# Altium integrated library Atmel Security Smart Card.IntLib: 140 symbols (part 2 of 4)
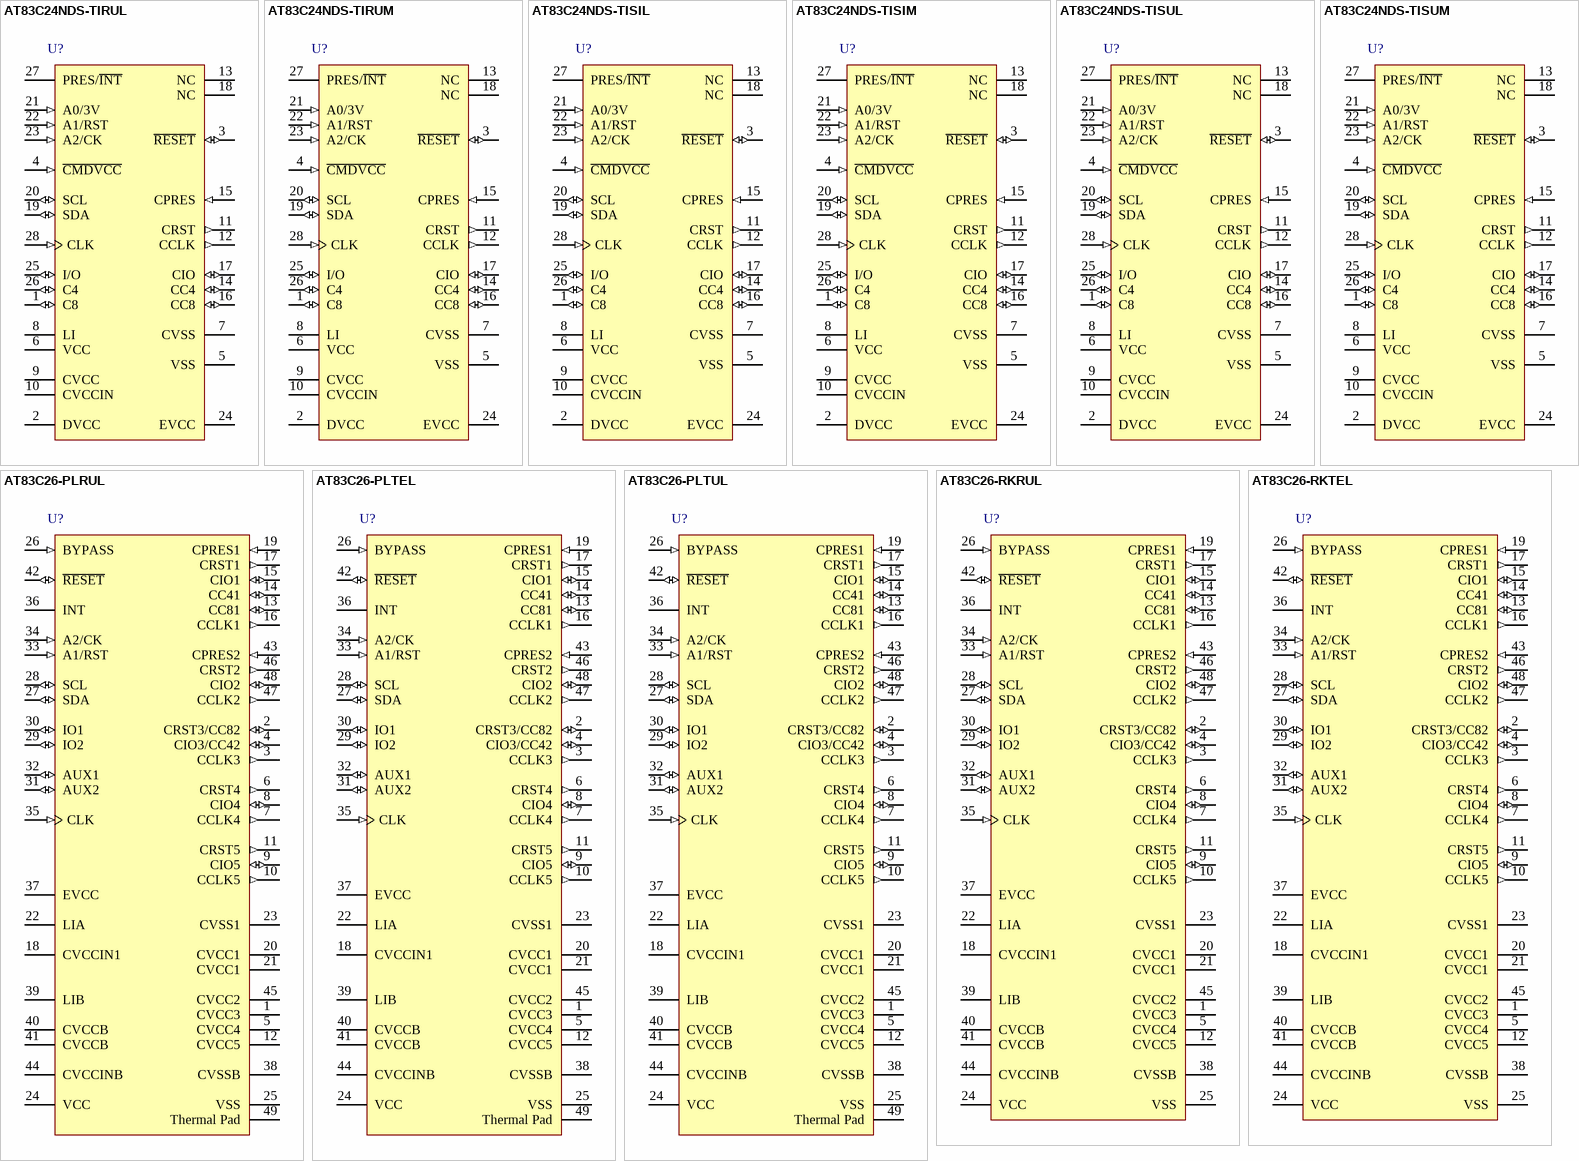
[diagram p9: symbols AT83C24NDS-TIRUL to AT83C26-RKTEL]

## AT83C26-RKRUL
designator U?
Multiple Smart Card Reader Interface With Power Management, Industrial, 48-Pin QFP Pkg, Tape and Reel, Pb-Free; DatasheetVersion: revD, Feb-2007; PackageVersion: rev1229B, Nov-2000; PackageReference: 48A; PackageDescription: 48-Pin Thin Quad Flat Pack 0.5 mm Pitch; ComponentLink1Description: Manufacturer URL; ComponentLink1URL: http://www.atmel.com/; ComponentLink2Description: Datasheet; ComponentLink2URL: http://www.atmel.com/dyn/resources/prod_documents/doc7511.pdf
footprint 48A_N (Thin QFP, 48-Leads, Body 7x7mm, Pitch 0.5mm, IPC Medium Density)
footprint 48A_L (Thin QFP, 48-Leads, Body 7x7mm, Pitch 0.5mm, IPC High Density)
footprint 48A_M (Thin QFP, 48-Leads, Body 7x7mm, Pitch 0.5mm, IPC Low Density)
pins: 1 CVCC3 (power), 2 CRST3/CC82 (io), 3 CCLK3 (out), 4 CIO3/CC42 (io), 5 CVCC4 (power), 6 CRST4 (out), 7 CCLK4 (out), 8 CIO4 (io), 9 CIO5 (io), 10 CCLK5 (out), 11 CRST5 (out), 12 CVCC5 (power), 13 CC81 (io), 14 CC41 (io), 15 CIO1 (io), 16 CCLK1 (out), 17 CRST1 (out), 18 CVCCIN1 (power), 19 CPRES1 (in), 20 CVCC1 (power), 21 CVCC1 (power), 22 LIA (power), 23 CVSS1 (power), 24 VCC (power), 25 VSS (power), 26 BYPASS (in), 27 SDA (io), 28 SCL (io), 29 IO2 (io), 30 IO1 (io), 31 AUX2 (io), 32 AUX1 (io), 33 A1/RST (in), 34 A2/CK (in), 35 CLK (in), 36 INT, 37 EVCC (power), 38 CVSSB (power), 39 LIB (power), 40 CVCCB (power), 41 CVCCB (power), 42 ~{RESET} (io), 43 CPRES2 (in), 44 CVCCINB (power), 45 CVCC2 (power), 46 CRST2 (out), 47 CCLK2 (out), 48 CIO2 (io)

## AT83C26-RKTEL
designator U?
Multiple Smart Card Reader Interface With Power Management, 25 degC, 48-Pin QFP Pkg, Tray; DatasheetVersion: revD, Feb-2007; PackageVersion: rev1229B, Nov-2000; PackageReference: 48A; PackageDescription: 48-Pin Thin Quad Flat Pack 0.5 mm Pitch; ComponentLink1Description: Manufacturer URL; ComponentLink1URL: http://www.atmel.com/; ComponentLink2Description: Datasheet; ComponentLink2URL: http://www.atmel.com/dyn/resources/prod_documents/doc7511.pdf
footprint 48A_N (Thin QFP, 48-Leads, Body 7x7mm, Pitch 0.5mm, IPC Medium Density)
footprint 48A_L (Thin QFP, 48-Leads, Body 7x7mm, Pitch 0.5mm, IPC High Density)
footprint 48A_M (Thin QFP, 48-Leads, Body 7x7mm, Pitch 0.5mm, IPC Low Density)
pins: 1 CVCC3 (power), 2 CRST3/CC82 (io), 3 CCLK3 (out), 4 CIO3/CC42 (io), 5 CVCC4 (power), 6 CRST4 (out), 7 CCLK4 (out), 8 CIO4 (io), 9 CIO5 (io), 10 CCLK5 (out), 11 CRST5 (out), 12 CVCC5 (power), 13 CC81 (io), 14 CC41 (io), 15 CIO1 (io), 16 CCLK1 (out), 17 CRST1 (out), 18 CVCCIN1 (power), 19 CPRES1 (in), 20 CVCC1 (power), 21 CVCC1 (power), 22 LIA (power), 23 CVSS1 (power), 24 VCC (power), 25 VSS (power), 26 BYPASS (in), 27 SDA (io), 28 SCL (io), 29 IO2 (io), 30 IO1 (io), 31 AUX2 (io), 32 AUX1 (io), 33 A1/RST (in), 34 A2/CK (in), 35 CLK (in), 36 INT, 37 EVCC (power), 38 CVSSB (power), 39 LIB (power), 40 CVCCB (power), 41 CVCCB (power), 42 ~{RESET} (io), 43 CPRES2 (in), 44 CVCCINB (power), 45 CVCC2 (power), 46 CRST2 (out), 47 CCLK2 (out), 48 CIO2 (io)

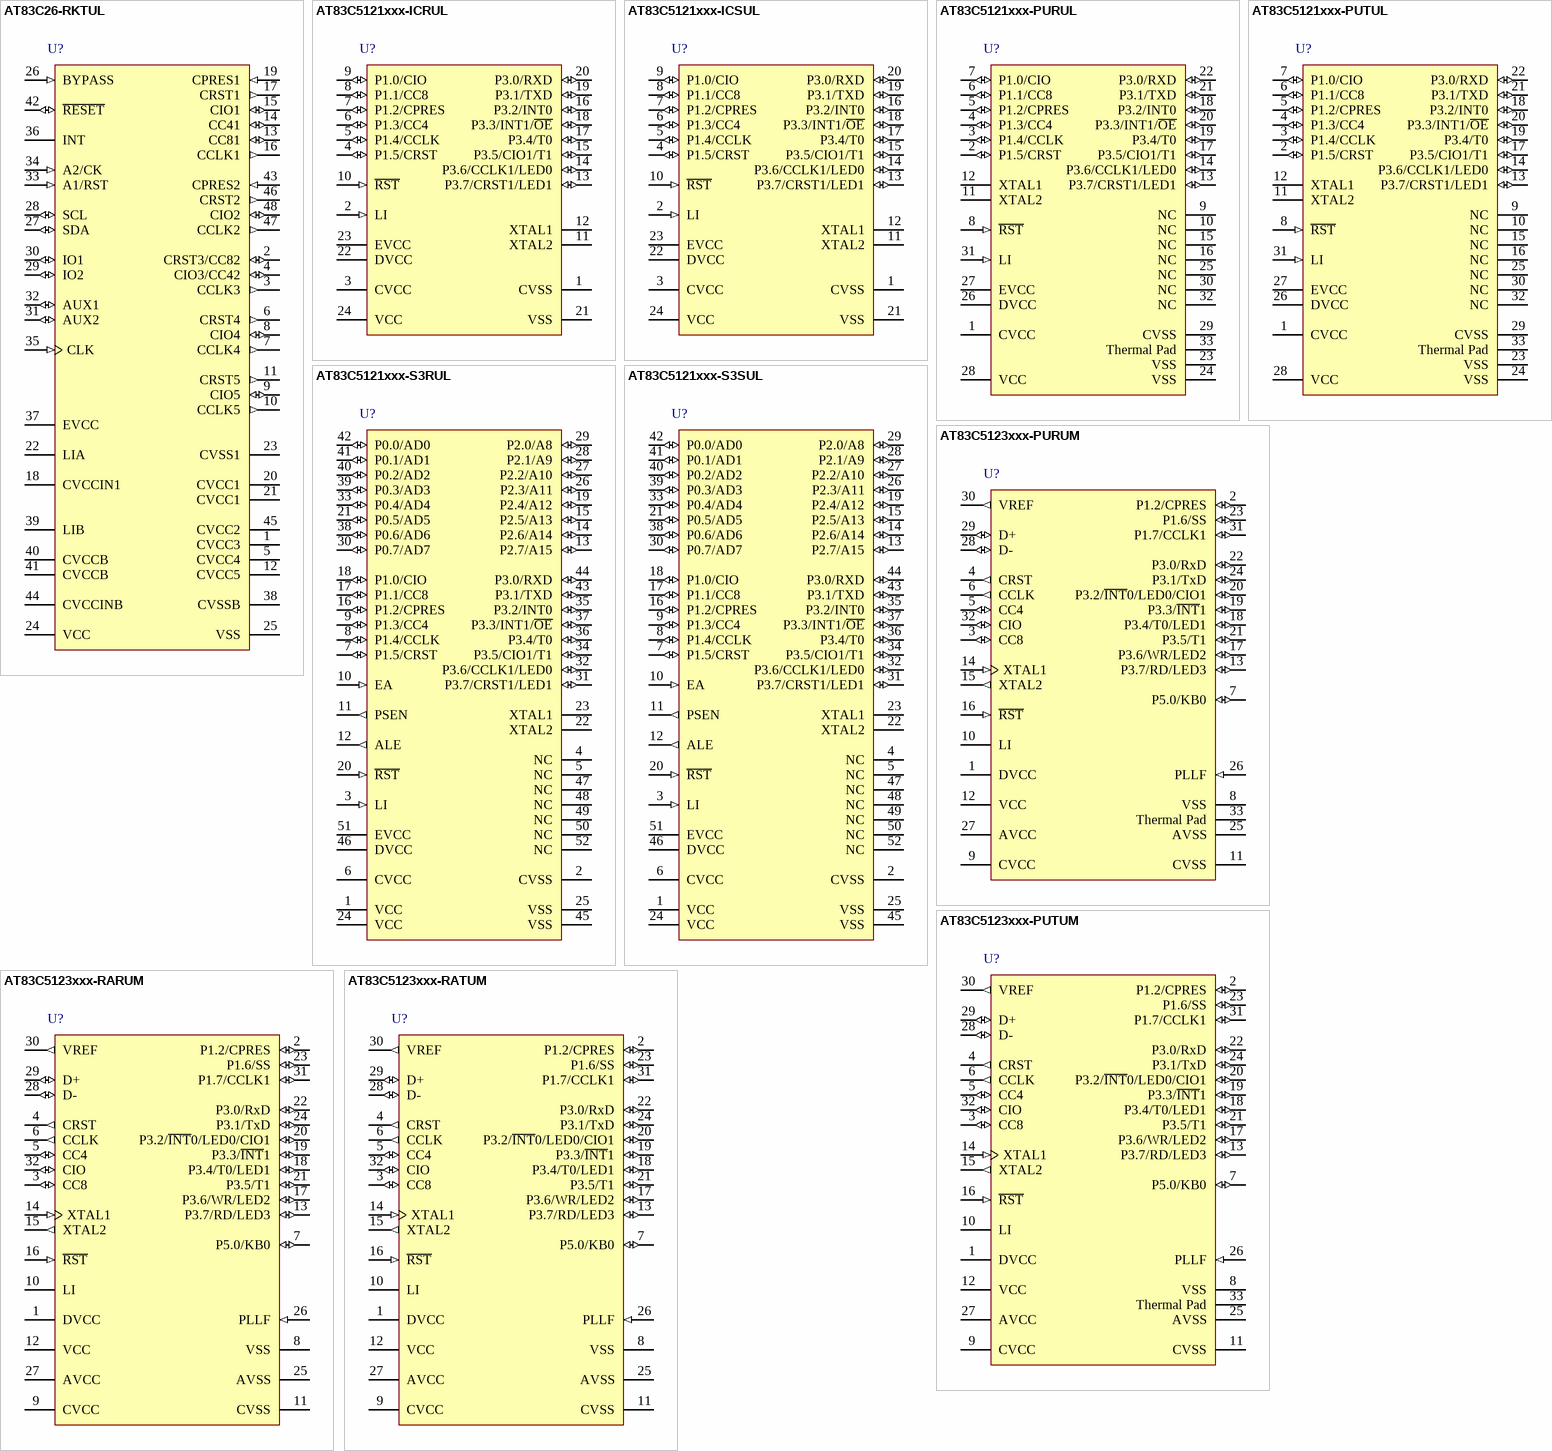
[diagram p3: symbols AT83C26-RKTUL to AT83C5123xxx-RATUM]

## AT83C26-RKTUL
designator U?
Multiple Smart Card Reader Interface With Power Management, Industrial, 48-Pin QFP Pkg, Tray, Pb-Free; DatasheetVersion: revD, Feb-2007; PackageVersion: rev1229B, Nov-2000; PackageReference: 48A; PackageDescription: 48-Pin Thin Quad Flat Pack 0.5 mm Pitch; ComponentLink1Description: Manufacturer URL; ComponentLink1URL: http://www.atmel.com/; ComponentLink2Description: Datasheet; ComponentLink2URL: http://www.atmel.com/dyn/resources/prod_documents/doc7511.pdf
footprint 48A_N (Thin QFP, 48-Leads, Body 7x7mm, Pitch 0.5mm, IPC Medium Density)
footprint 48A_L (Thin QFP, 48-Leads, Body 7x7mm, Pitch 0.5mm, IPC High Density)
footprint 48A_M (Thin QFP, 48-Leads, Body 7x7mm, Pitch 0.5mm, IPC Low Density)
pins: 1 CVCC3 (power), 2 CRST3/CC82 (io), 3 CCLK3 (out), 4 CIO3/CC42 (io), 5 CVCC4 (power), 6 CRST4 (out), 7 CCLK4 (out), 8 CIO4 (io), 9 CIO5 (io), 10 CCLK5 (out), 11 CRST5 (out), 12 CVCC5 (power), 13 CC81 (io), 14 CC41 (io), 15 CIO1 (io), 16 CCLK1 (out), 17 CRST1 (out), 18 CVCCIN1 (power), 19 CPRES1 (in), 20 CVCC1 (power), 21 CVCC1 (power), 22 LIA (power), 23 CVSS1 (power), 24 VCC (power), 25 VSS (power), 26 BYPASS (in), 27 SDA (io), 28 SCL (io), 29 IO2 (io), 30 IO1 (io), 31 AUX2 (io), 32 AUX1 (io), 33 A1/RST (in), 34 A2/CK (in), 35 CLK (in), 36 INT, 37 EVCC (power), 38 CVSSB (power), 39 LIB (power), 40 CVCCB (power), 41 CVCCB (power), 42 ~{RESET} (io), 43 CPRES2 (in), 44 CVCCINB (power), 45 CVCC2 (power), 46 CRST2 (out), 47 CCLK2 (out), 48 CIO2 (io)

## AT83C5121xxx-ICRUL
designator U?
8-bit Microcontroller with Multiprotocol Smart Card Interface, Industrial, 24-Pin SOIC Pkg, Tape and Reel, Pb-Free; DatasheetVersion: revG, July-2006; PackageVersion: 1/07/2006; PackageReference: SSOP24; PackageDescription: 24-Pin Shrink Small Outline Package, 8.2 x 5.3 mm Body, 0.65 mm Pitch; Code_JEDEC: MO-150-AG; ComponentLink1Description: Manufacturer URL; ComponentLink1URL: http://www.atmel.com/; ComponentLink2Description: Datasheet; ComponentLink2URL: http://www.atmel.com/dyn/resources/prod_documents/doc4164.pdf
footprint SSOP24_N (SOP, 24-Leads, Body 8.2x5.3mm, Pitch 0.65mm, IPC Medium Density)
footprint SSOP24_L (SOP, 24-Leads, Body 8.2x5.3mm, Pitch 0.65mm, IPC High Density)
footprint SSOP24_M (SOP, 24-Leads, Body 8.2x5.3mm, Pitch 0.65mm, IPC Low Density)
pins: 1 CVSS (power), 2 LI (in), 3 CVCC (power), 4 P1.5/CRST (io), 5 P1.4/CCLK (io), 6 P1.3/CC4 (io), 7 P1.2/CPRES (io), 8 P1.1/CC8 (io), 9 P1.0/CIO (io), 10 ~{RST} (in), 11 XTAL2, 12 XTAL1, 13 P3.7/CRST1/LED1 (io), 14 P3.6/CCLK1/LED0 (io), 15 P3.5/CIO1/T1 (io), 16 P3.2/INT0 (io), 17 P3.4/T0 (io), 18 P3.3/INT1/~{OE} (io), 19 P3.1/TXD (io), 20 P3.0/RXD (io), 21 VSS (power), 22 DVCC (power), 23 EVCC (power), 24 VCC (power)

## AT83C5121xxx-ICSUL
designator U?
8-bit Microcontroller with Multiprotocol Smart Card Interface, Industrial, 24-Pin SOIC Pkg, Stick, Pb-Free; DatasheetVersion: revG, July-2006; PackageVersion: 1/07/2006; PackageReference: SSOP24; PackageDescription: 24-Pin Shrink Small Outline Package, 8.2 x 5.3 mm Body, 0.65 mm Pitch; Code_JEDEC: MO-150-AG; ComponentLink1Description: Manufacturer URL; ComponentLink1URL: http://www.atmel.com/; ComponentLink2Description: Datasheet; ComponentLink2URL: http://www.atmel.com/dyn/resources/prod_documents/doc4164.pdf
footprint SSOP24_N (SOP, 24-Leads, Body 8.2x5.3mm, Pitch 0.65mm, IPC Medium Density)
footprint SSOP24_L (SOP, 24-Leads, Body 8.2x5.3mm, Pitch 0.65mm, IPC High Density)
footprint SSOP24_M (SOP, 24-Leads, Body 8.2x5.3mm, Pitch 0.65mm, IPC Low Density)
pins: 1 CVSS (power), 2 LI (in), 3 CVCC (power), 4 P1.5/CRST (io), 5 P1.4/CCLK (io), 6 P1.3/CC4 (io), 7 P1.2/CPRES (io), 8 P1.1/CC8 (io), 9 P1.0/CIO (io), 10 ~{RST} (in), 11 XTAL2, 12 XTAL1, 13 P3.7/CRST1/LED1 (io), 14 P3.6/CCLK1/LED0 (io), 15 P3.5/CIO1/T1 (io), 16 P3.2/INT0 (io), 17 P3.4/T0 (io), 18 P3.3/INT1/~{OE} (io), 19 P3.1/TXD (io), 20 P3.0/RXD (io), 21 VSS (power), 22 DVCC (power), 23 EVCC (power), 24 VCC (power)

## AT83C5121xxx-PURUL
designator U?
8-bit Microcontroller with Multiprotocol Smart Card Interface, Industrial, 32-Pin QFN Pkg, Tray, Pb-Free; DatasheetVersion: revG, July-2006; PackageVersion: 26/10/2011; PackageReference: QFN32; PackageDescription: 32-Pin Quad Flat No-Lead, 7 x 7 mm Body, 0.65 mm Pitch; Code_JEDEC: MO-220VKKC; Code_IPC: QFN65P700X700-32V; ComponentLink1Description: Manufacturer URL; ComponentLink1URL: http://www.atmel.com/; ComponentLink2Description: Datasheet; ComponentLink2URL: http://www.atmel.com/dyn/resources/prod_documents/doc4164.pdf
footprint QFN32_N (QFN, 32-Leads, Body 7x7mm, Pitch 0.65mm, Thermal Pad 5.3x5.3mm, IPC Medium Density)
footprint QFN32_L (QFN, 32-Leads, Body 7x7mm, Pitch 0.65mm, Thermal Pad 5.3x5.3mm, IPC High Density)
footprint QFN32_M (QFN, 32-Leads, Body 7x7mm, Pitch 0.65mm, Thermal Pad 5.3x5.3mm, IPC Low Density)
pins: 1 CVCC (power), 2 P1.5/CRST (io), 3 P1.4/CCLK (io), 4 P1.3/CC4 (io), 5 P1.2/CPRES (io), 6 P1.1/CC8 (io), 7 P1.0/CIO (io), 8 ~{RST} (in), 9 NC, 10 NC, 11 XTAL2, 12 XTAL1, 13 P3.7/CRST1/LED1 (io), 14 P3.6/CCLK1/LED0 (io), 15 NC, 16 NC, 17 P3.5/CIO1/T1 (io), 18 P3.2/INT0 (io), 19 P3.4/T0 (io), 20 P3.3/INT1/~{OE} (io), 21 P3.1/TXD (io), 22 P3.0/RXD (io), 23 VSS (power), 24 VSS (power), 25 NC, 26 DVCC (power), 27 EVCC (power), 28 VCC (power), 29 CVSS (power), 30 NC, 31 LI (in), 32 NC, 33 Thermal Pad (power)

## AT83C5121xxx-PUTUL
designator U?
8-bit Microcontroller with Multiprotocol Smart Card Interface, Industrial, 32-Pin QFN Pkg, Tray, Pb-Free; DatasheetVersion: revG, July-2006; PackageVersion: 26/10/2011; PackageReference: QFN32; PackageDescription: 32-Pin Quad Flat No-Lead, 7 x 7 mm Body, 0.65 mm Pitch; Code_JEDEC: MO-220VKKC; Code_IPC: QFN65P700X700-32V; ComponentLink1Description: Manufacturer URL; ComponentLink1URL: http://www.atmel.com/; ComponentLink2Description: Datasheet; ComponentLink2URL: http://www.atmel.com/dyn/resources/prod_documents/doc4164.pdf
footprint QFN32_N (QFN, 32-Leads, Body 7x7mm, Pitch 0.65mm, Thermal Pad 5.3x5.3mm, IPC Medium Density)
footprint QFN32_L (QFN, 32-Leads, Body 7x7mm, Pitch 0.65mm, Thermal Pad 5.3x5.3mm, IPC High Density)
footprint QFN32_M (QFN, 32-Leads, Body 7x7mm, Pitch 0.65mm, Thermal Pad 5.3x5.3mm, IPC Low Density)
pins: 1 CVCC (power), 2 P1.5/CRST (io), 3 P1.4/CCLK (io), 4 P1.3/CC4 (io), 5 P1.2/CPRES (io), 6 P1.1/CC8 (io), 7 P1.0/CIO (io), 8 ~{RST} (in), 9 NC, 10 NC, 11 XTAL2, 12 XTAL1, 13 P3.7/CRST1/LED1 (io), 14 P3.6/CCLK1/LED0 (io), 15 NC, 16 NC, 17 P3.5/CIO1/T1 (io), 18 P3.2/INT0 (io), 19 P3.4/T0 (io), 20 P3.3/INT1/~{OE} (io), 21 P3.1/TXD (io), 22 P3.0/RXD (io), 23 VSS (power), 24 VSS (power), 25 NC, 26 DVCC (power), 27 EVCC (power), 28 VCC (power), 29 CVSS (power), 30 NC, 31 LI (in), 32 NC, 33 Thermal Pad (power)

## AT83C5121xxx-S3RUL
designator U?
8-bit Microcontroller with Multiprotocol Smart Card Interface, Industrial, 52-Pin LCC Pkg, Tape and Reel, Pb-Free; DatasheetVersion: revG, July-2006; PackageVersion: 1/07/2006; PackageReference: PLCC52; PackageDescription: 52-Pin Leaded Chip Carrier ,19 x 19 mm Body, 1.27 mm Pitch; Code_IPC: PLCC-52; ComponentLink1Description: Manufacturer URL; ComponentLink1URL: http://www.atmel.com/; ComponentLink2Description: Datasheet; ComponentLink2URL: http://www.atmel.com/dyn/resources/prod_documents/doc4164.pdf
footprint PLCC52_N (Leaded Chip Carrier, 52-Leads, Body 19x19mm, Pitch 1.27mm, IPC Medium Density)
footprint PLCC52_L (Leaded Chip Carrier, 52-Leads, Body 19x19mm, Pitch 1.27mm, IPC High Density)
footprint PLCC52_M (Leaded Chip Carrier, 52-Leads, Body 19x19mm, Pitch 1.27mm, IPC Low Density)
pins: 1 VCC (power), 2 CVSS (power), 3 LI (in), 4 NC, 5 NC, 6 CVCC (power), 7 P1.5/CRST (io), 8 P1.4/CCLK (io), 9 P1.3/CC4 (io), 10 EA (in), 11 PSEN (out), 12 ALE (out), 13 P2.7/A15 (io), 14 P2.6/A14 (io), 15 P2.5/A13 (io), 16 P1.2/CPRES (io), 17 P1.1/CC8 (io), 18 P1.0/CIO (io), 19 P2.4/A12 (io), 20 ~{RST} (in), 21 P0.5/AD5 (io), 22 XTAL2, 23 XTAL1, 24 VCC (power), 25 VSS (power), 26 P2.3/A11 (io), 27 P2.2/A10 (io), 28 P2.1/A9 (io), 29 P2.0/A8 (io), 30 P0.7/AD7 (io), 31 P3.7/CRST1/LED1 (io), 32 P3.6/CCLK1/LED0 (io), 33 P0.4/AD4 (io), 34 P3.5/CIO1/T1 (io), 35 P3.2/INT0 (io), 36 P3.4/T0 (io), 37 P3.3/INT1/~{OE} (io), 38 P0.6/AD6 (io), 39 P0.3/AD3 (io), 40 P0.2/AD2 (io), 41 P0.1/AD1 (io), 42 P0.0/AD0 (io), 43 P3.1/TXD (io), 44 P3.0/RXD (io), 45 VSS (power), 46 DVCC (power), 47 NC, 48 NC, 49 NC, 50 NC, 51 EVCC (power), 52 NC

## AT83C5121xxx-S3SUL
designator U?
8-bit Microcontroller with Multiprotocol Smart Card Interface, Industrial, 52-Pin LCC Pkg, Stick, Pb-Free; DatasheetVersion: revG, July-2006; PackageVersion: 1/07/2006; PackageReference: PLCC52; PackageDescription: 52-Pin Leaded Chip Carrier ,19 x 19 mm Body, 1.27 mm Pitch; Code_IPC: PLCC-52; ComponentLink1Description: Manufacturer URL; ComponentLink1URL: http://www.atmel.com/; ComponentLink2Description: Datasheet; ComponentLink2URL: http://www.atmel.com/dyn/resources/prod_documents/doc4164.pdf
footprint PLCC52_N (Leaded Chip Carrier, 52-Leads, Body 19x19mm, Pitch 1.27mm, IPC Medium Density)
footprint PLCC52_L (Leaded Chip Carrier, 52-Leads, Body 19x19mm, Pitch 1.27mm, IPC High Density)
footprint PLCC52_M (Leaded Chip Carrier, 52-Leads, Body 19x19mm, Pitch 1.27mm, IPC Low Density)
pins: 1 VCC (power), 2 CVSS (power), 3 LI (in), 4 NC, 5 NC, 6 CVCC (power), 7 P1.5/CRST (io), 8 P1.4/CCLK (io), 9 P1.3/CC4 (io), 10 EA (in), 11 PSEN (out), 12 ALE (out), 13 P2.7/A15 (io), 14 P2.6/A14 (io), 15 P2.5/A13 (io), 16 P1.2/CPRES (io), 17 P1.1/CC8 (io), 18 P1.0/CIO (io), 19 P2.4/A12 (io), 20 ~{RST} (in), 21 P0.5/AD5 (io), 22 XTAL2, 23 XTAL1, 24 VCC (power), 25 VSS (power), 26 P2.3/A11 (io), 27 P2.2/A10 (io), 28 P2.1/A9 (io), 29 P2.0/A8 (io), 30 P0.7/AD7 (io), 31 P3.7/CRST1/LED1 (io), 32 P3.6/CCLK1/LED0 (io), 33 P0.4/AD4 (io), 34 P3.5/CIO1/T1 (io), 35 P3.2/INT0 (io), 36 P3.4/T0 (io), 37 P3.3/INT1/~{OE} (io), 38 P0.6/AD6 (io), 39 P0.3/AD3 (io), 40 P0.2/AD2 (io), 41 P0.1/AD1 (io), 42 P0.0/AD0 (io), 43 P3.1/TXD (io), 44 P3.0/RXD (io), 45 VSS (power), 46 DVCC (power), 47 NC, 48 NC, 49 NC, 50 NC, 51 EVCC (power), 52 NC

## AT83C5123xxx-PURUM
designator U?
C51 Microcontroller with USB and Smart Card Reader Interfaces, 30K ROM, Industrial, 32-Pin QFN Pkg, Tape and Reel; DatasheetVersion: revF, July-2008; PackageVersion: 26/10/2011; PackageReference: QFN32; PackageDescription: 32-Pin Quad Flat No-Lead, 7 x 7 mm Body, 0.65 mm Pitch; Code_JEDEC: MO-220VKKC; Code_IPC: QFN65P700X700-32V; ComponentLink1Description: Manufacturer URL; ComponentLink1URL: http://www.atmel.com/; ComponentLink2Description: Datasheet; ComponentLink2URL: http://www.atmel.com/dyn/resources/prod_documents/datasheet%20C5122.pdf
footprint QFN32_N (QFN, 32-Leads, Body 7x7mm, Pitch 0.65mm, Thermal Pad 5.3x5.3mm, IPC Medium Density)
footprint QFN32_L (QFN, 32-Leads, Body 7x7mm, Pitch 0.65mm, Thermal Pad 5.3x5.3mm, IPC High Density)
footprint QFN32_M (QFN, 32-Leads, Body 7x7mm, Pitch 0.65mm, Thermal Pad 5.3x5.3mm, IPC Low Density)
pins: 1 DVCC (power), 2 P1.2/CPRES (io), 3 CC8 (io), 4 CRST (out), 5 CC4 (io), 6 CCLK (out), 7 P5.0/KB0 (io), 8 VSS (power), 9 CVCC (power), 10 LI (power), 11 CVSS (power), 12 VCC (power), 13 P3.7/RD/LED3 (io), 14 XTAL1 (in), 15 XTAL2 (out), 16 ~{RST} (in), 17 P3.6/WR/LED2 (io), 18 P3.4/T0/LED1 (io), 19 P3.3/~{INT}1 (io), 20 P3.2/~{INT}0/LED0/CIO1 (io), 21 P3.5/T1 (io), 22 P3.0/RxD (io), 23 P1.6/SS (io), 24 P3.1/TxD (io), 25 AVSS (power), 26 PLLF (in), 27 AVCC (power), 28 D- (io), 29 D+ (io), 30 VREF (out), 31 P1.7/CCLK1 (io), 32 CIO (io), 33 Thermal Pad (power)

## AT83C5123xxx-PUTUM
designator U?
C51 Microcontroller with USB and Smart Card Reader Interfaces, 30K ROM, Industrial, 32-Pin QFN Pkg, Tray; DatasheetVersion: revF, July-2008; PackageVersion: 26/10/2011; PackageReference: QFN32; PackageDescription: 32-Pin Quad Flat No-Lead, 7 x 7 mm Body, 0.65 mm Pitch; Code_JEDEC: MO-220VKKC; Code_IPC: QFN65P700X700-32V; ComponentLink1Description: Manufacturer URL; ComponentLink1URL: http://www.atmel.com/; ComponentLink2Description: Datasheet; ComponentLink2URL: http://www.atmel.com/dyn/resources/prod_documents/datasheet%20C5122.pdf
footprint QFN32_N (QFN, 32-Leads, Body 7x7mm, Pitch 0.65mm, Thermal Pad 5.3x5.3mm, IPC Medium Density)
footprint QFN32_L (QFN, 32-Leads, Body 7x7mm, Pitch 0.65mm, Thermal Pad 5.3x5.3mm, IPC High Density)
footprint QFN32_M (QFN, 32-Leads, Body 7x7mm, Pitch 0.65mm, Thermal Pad 5.3x5.3mm, IPC Low Density)
pins: 1 DVCC (power), 2 P1.2/CPRES (io), 3 CC8 (io), 4 CRST (out), 5 CC4 (io), 6 CCLK (out), 7 P5.0/KB0 (io), 8 VSS (power), 9 CVCC (power), 10 LI (power), 11 CVSS (power), 12 VCC (power), 13 P3.7/RD/LED3 (io), 14 XTAL1 (in), 15 XTAL2 (out), 16 ~{RST} (in), 17 P3.6/WR/LED2 (io), 18 P3.4/T0/LED1 (io), 19 P3.3/~{INT}1 (io), 20 P3.2/~{INT}0/LED0/CIO1 (io), 21 P3.5/T1 (io), 22 P3.0/RxD (io), 23 P1.6/SS (io), 24 P3.1/TxD (io), 25 AVSS (power), 26 PLLF (in), 27 AVCC (power), 28 D- (io), 29 D+ (io), 30 VREF (out), 31 P1.7/CCLK1 (io), 32 CIO (io), 33 Thermal Pad (power)

## AT83C5123xxx-RARUM
designator U?
C51 Microcontroller with USB and Smart Card Reader Interfaces, 30K ROM, Industrial, 32-Pin QFP Pkg, Tape and Reel; DatasheetVersion: revF, July-2008; PackageVersion: 1/03/2007; PackageReference: LQFP32; PackageDescription: 32-Lead Thin Profile Quad Flatpack, 7 x 7 x 1.4 mm Body,  0.8 mm Pitch; ComponentLink1Description: Manufacturer URL; ComponentLink1URL: http://www.atmel.com/; ComponentLink2Description: Datasheet; ComponentLink2URL: http://www.atmel.com/dyn/resources/prod_documents/datasheet%20C5122.pdf
footprint LQFP32_N (Thin QFP, 32-Leads, Body 7x7mm, Pitch 0.8mm, IPC Medium Density)
footprint LQFP32_L (Thin QFP, 32-Leads, Body 7x7mm, Pitch 0.8mm, IPC High Density)
footprint LQFP32_M (Thin QFP, 32-Leads, Body 7x7mm, Pitch 0.8mm, IPC Low Density)
pins: 1 DVCC (power), 2 P1.2/CPRES (io), 3 CC8 (io), 4 CRST (out), 5 CC4 (io), 6 CCLK (out), 7 P5.0/KB0 (io), 8 VSS (power), 9 CVCC (power), 10 LI (power), 11 CVSS (power), 12 VCC (power), 13 P3.7/RD/LED3 (io), 14 XTAL1 (in), 15 XTAL2 (out), 16 ~{RST} (in), 17 P3.6/WR/LED2 (io), 18 P3.4/T0/LED1 (io), 19 P3.3/~{INT}1 (io), 20 P3.2/~{INT}0/LED0/CIO1 (io), 21 P3.5/T1 (io), 22 P3.0/RxD (io), 23 P1.6/SS (io), 24 P3.1/TxD (io), 25 AVSS (power), 26 PLLF (in), 27 AVCC (power), 28 D- (io), 29 D+ (io), 30 VREF (out), 31 P1.7/CCLK1 (io), 32 CIO (io)

## AT83C5123xxx-RATUM
designator U?
C51 Microcontroller with USB and Smart Card Reader Interfaces, 30K ROM, Industrial, 32-Pin QFP Pkg, Tray; DatasheetVersion: revF, July-2008; PackageVersion: 1/03/2007; PackageReference: LQFP32; PackageDescription: 32-Lead Thin Profile Quad Flatpack, 7 x 7 x 1.4 mm Body,  0.8 mm Pitch; ComponentLink1Description: Manufacturer URL; ComponentLink1URL: http://www.atmel.com/; ComponentLink2Description: Datasheet; ComponentLink2URL: http://www.atmel.com/dyn/resources/prod_documents/datasheet%20C5122.pdf
footprint LQFP32_N (Thin QFP, 32-Leads, Body 7x7mm, Pitch 0.8mm, IPC Medium Density)
footprint LQFP32_L (Thin QFP, 32-Leads, Body 7x7mm, Pitch 0.8mm, IPC High Density)
footprint LQFP32_M (Thin QFP, 32-Leads, Body 7x7mm, Pitch 0.8mm, IPC Low Density)
pins: 1 DVCC (power), 2 P1.2/CPRES (io), 3 CC8 (io), 4 CRST (out), 5 CC4 (io), 6 CCLK (out), 7 P5.0/KB0 (io), 8 VSS (power), 9 CVCC (power), 10 LI (power), 11 CVSS (power), 12 VCC (power), 13 P3.7/RD/LED3 (io), 14 XTAL1 (in), 15 XTAL2 (out), 16 ~{RST} (in), 17 P3.6/WR/LED2 (io), 18 P3.4/T0/LED1 (io), 19 P3.3/~{INT}1 (io), 20 P3.2/~{INT}0/LED0/CIO1 (io), 21 P3.5/T1 (io), 22 P3.0/RxD (io), 23 P1.6/SS (io), 24 P3.1/TxD (io), 25 AVSS (power), 26 PLLF (in), 27 AVCC (power), 28 D- (io), 29 D+ (io), 30 VREF (out), 31 P1.7/CCLK1 (io), 32 CIO (io)

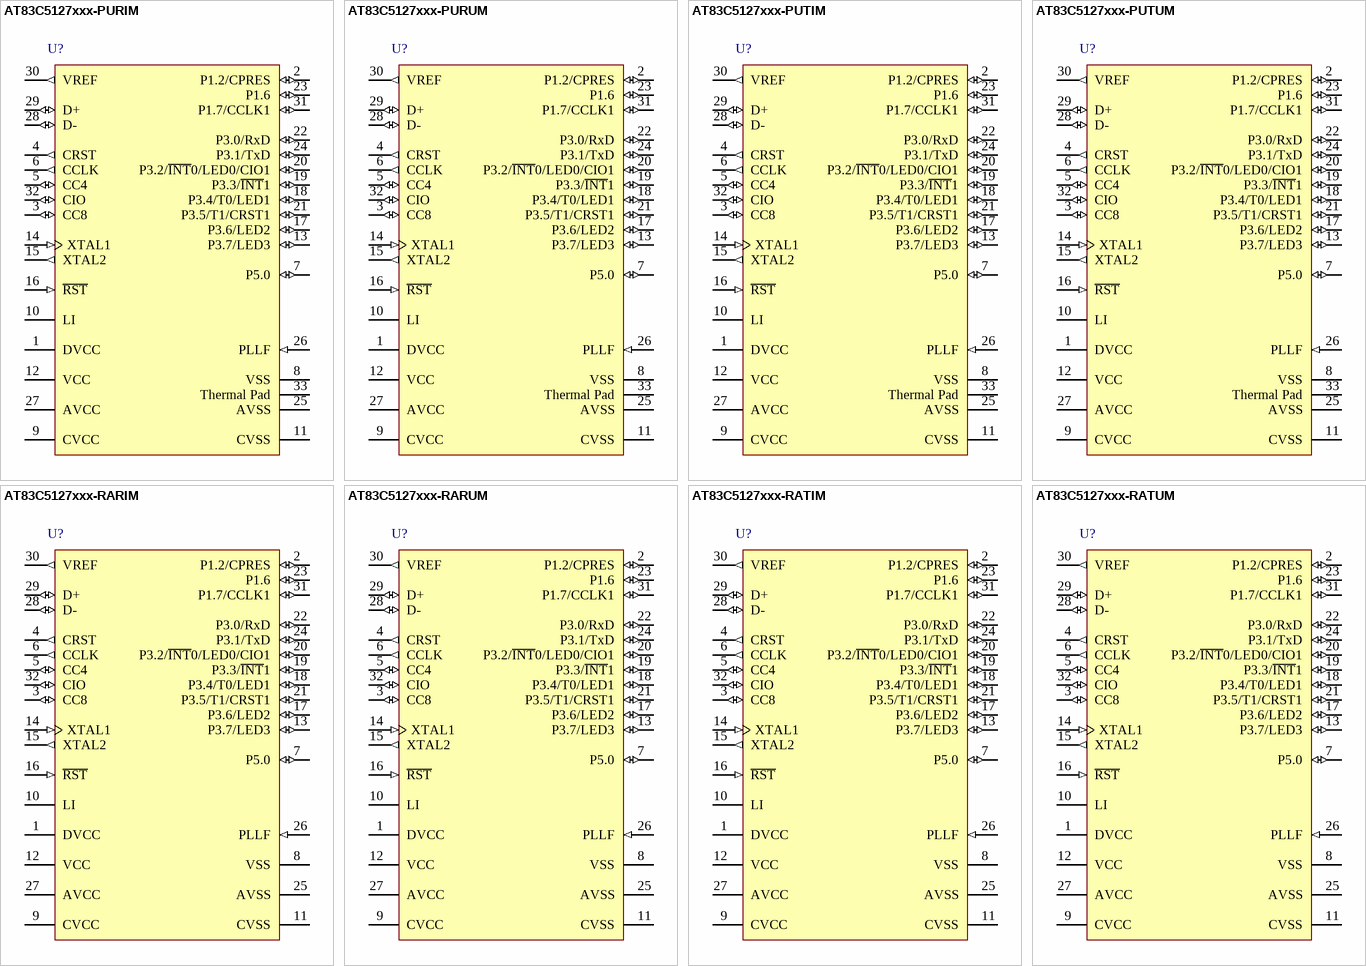
[diagram p4: symbols AT83C5127xxx-PURIM to AT83C5127xxx-RATUM]

## AT83C5127xxx-PURIM
designator U?
C51 Microcontroller with USB and Smart Card Reader Interfaces, Industrial, 32-Pin QFN Pkg, Tape and Reel; DatasheetVersion: revA, Apr-2005; PackageVersion: 26/10/2011; PackageReference: QFN32; PackageDescription: 32-Pin Quad Flat No-Lead, 7 x 7 mm Body, 0.65 mm Pitch; Code_JEDEC: MO-220VKKC; Code_IPC: QFN65P700X700-32V; ComponentLink1Description: Manufacturer URL; ComponentLink1URL: http://www.atmel.com/; ComponentLink2Description: Datasheet; ComponentLink2URL: http://www.atmel.com/dyn/resources/prod_documents/doc7519.pdf
footprint QFN32_N (QFN, 32-Leads, Body 7x7mm, Pitch 0.65mm, Thermal Pad 5.3x5.3mm, IPC Medium Density)
footprint QFN32_L (QFN, 32-Leads, Body 7x7mm, Pitch 0.65mm, Thermal Pad 5.3x5.3mm, IPC High Density)
footprint QFN32_M (QFN, 32-Leads, Body 7x7mm, Pitch 0.65mm, Thermal Pad 5.3x5.3mm, IPC Low Density)
pins: 1 DVCC (power), 2 P1.2/CPRES (io), 3 CC8 (io), 4 CRST (out), 5 CC4 (io), 6 CCLK (out), 7 P5.0 (io), 8 VSS (power), 9 CVCC (power), 10 LI (power), 11 CVSS (power), 12 VCC (power), 13 P3.7/LED3 (io), 14 XTAL1 (in), 15 XTAL2 (out), 16 ~{RST} (in), 17 P3.6/LED2 (io), 18 P3.4/T0/LED1 (io), 19 P3.3/~{INT}1 (io), 20 P3.2/~{INT}0/LED0/CIO1 (io), 21 P3.5/T1/CRST1 (io), 22 P3.0/RxD (io), 23 P1.6 (io), 24 P3.1/TxD (io), 25 AVSS (power), 26 PLLF (in), 27 AVCC (power), 28 D- (io), 29 D+ (io), 30 VREF (out), 31 P1.7/CCLK1 (io), 32 CIO (io), 33 Thermal Pad (power)

## AT83C5127xxx-PURUM
designator U?
C51 Microcontroller with USB and Smart Card Reader Interfaces, Industrial, 32-Pin QFN Pkg, Tape and Reel, Pb-Free; DatasheetVersion: revA, Apr-2005; PackageVersion: 26/10/2011; PackageReference: QFN32; PackageDescription: 32-Pin Quad Flat No-Lead, 7 x 7 mm Body, 0.65 mm Pitch; Code_JEDEC: MO-220VKKC; Code_IPC: QFN65P700X700-32V; ComponentLink1Description: Manufacturer URL; ComponentLink1URL: http://www.atmel.com/; ComponentLink2Description: Datasheet; ComponentLink2URL: http://www.atmel.com/dyn/resources/prod_documents/doc7519.pdf
footprint QFN32_N (QFN, 32-Leads, Body 7x7mm, Pitch 0.65mm, Thermal Pad 5.3x5.3mm, IPC Medium Density)
footprint QFN32_L (QFN, 32-Leads, Body 7x7mm, Pitch 0.65mm, Thermal Pad 5.3x5.3mm, IPC High Density)
footprint QFN32_M (QFN, 32-Leads, Body 7x7mm, Pitch 0.65mm, Thermal Pad 5.3x5.3mm, IPC Low Density)
pins: 1 DVCC (power), 2 P1.2/CPRES (io), 3 CC8 (io), 4 CRST (out), 5 CC4 (io), 6 CCLK (out), 7 P5.0 (io), 8 VSS (power), 9 CVCC (power), 10 LI (power), 11 CVSS (power), 12 VCC (power), 13 P3.7/LED3 (io), 14 XTAL1 (in), 15 XTAL2 (out), 16 ~{RST} (in), 17 P3.6/LED2 (io), 18 P3.4/T0/LED1 (io), 19 P3.3/~{INT}1 (io), 20 P3.2/~{INT}0/LED0/CIO1 (io), 21 P3.5/T1/CRST1 (io), 22 P3.0/RxD (io), 23 P1.6 (io), 24 P3.1/TxD (io), 25 AVSS (power), 26 PLLF (in), 27 AVCC (power), 28 D- (io), 29 D+ (io), 30 VREF (out), 31 P1.7/CCLK1 (io), 32 CIO (io), 33 Thermal Pad (power)

## AT83C5127xxx-PUTIM
designator U?
C51 Microcontroller with USB and Smart Card Reader Interfaces, Industrial, 32-Pin QFN Pkg, Tray; DatasheetVersion: revA, Apr-2005; PackageVersion: 26/10/2011; PackageReference: QFN32; PackageDescription: 32-Pin Quad Flat No-Lead, 7 x 7 mm Body, 0.65 mm Pitch; Code_JEDEC: MO-220VKKC; Code_IPC: QFN65P700X700-32V; ComponentLink1Description: Manufacturer URL; ComponentLink1URL: http://www.atmel.com/; ComponentLink2Description: Datasheet; ComponentLink2URL: http://www.atmel.com/dyn/resources/prod_documents/doc7519.pdf
footprint QFN32_N (QFN, 32-Leads, Body 7x7mm, Pitch 0.65mm, Thermal Pad 5.3x5.3mm, IPC Medium Density)
footprint QFN32_L (QFN, 32-Leads, Body 7x7mm, Pitch 0.65mm, Thermal Pad 5.3x5.3mm, IPC High Density)
footprint QFN32_M (QFN, 32-Leads, Body 7x7mm, Pitch 0.65mm, Thermal Pad 5.3x5.3mm, IPC Low Density)
pins: 1 DVCC (power), 2 P1.2/CPRES (io), 3 CC8 (io), 4 CRST (out), 5 CC4 (io), 6 CCLK (out), 7 P5.0 (io), 8 VSS (power), 9 CVCC (power), 10 LI (power), 11 CVSS (power), 12 VCC (power), 13 P3.7/LED3 (io), 14 XTAL1 (in), 15 XTAL2 (out), 16 ~{RST} (in), 17 P3.6/LED2 (io), 18 P3.4/T0/LED1 (io), 19 P3.3/~{INT}1 (io), 20 P3.2/~{INT}0/LED0/CIO1 (io), 21 P3.5/T1/CRST1 (io), 22 P3.0/RxD (io), 23 P1.6 (io), 24 P3.1/TxD (io), 25 AVSS (power), 26 PLLF (in), 27 AVCC (power), 28 D- (io), 29 D+ (io), 30 VREF (out), 31 P1.7/CCLK1 (io), 32 CIO (io), 33 Thermal Pad (power)

## AT83C5127xxx-PUTUM
designator U?
C51 Microcontroller with USB and Smart Card Reader Interfaces, Industrial, 32-Pin QFN Pkg, Tray, Pb-Free; DatasheetVersion: revA, Apr-2005; PackageVersion: 26/10/2011; PackageReference: QFN32; PackageDescription: 32-Pin Quad Flat No-Lead, 7 x 7 mm Body, 0.65 mm Pitch; Code_JEDEC: MO-220VKKC; Code_IPC: QFN65P700X700-32V; ComponentLink1Description: Manufacturer URL; ComponentLink1URL: http://www.atmel.com/; ComponentLink2Description: Datasheet; ComponentLink2URL: http://www.atmel.com/dyn/resources/prod_documents/doc7519.pdf
footprint QFN32_N (QFN, 32-Leads, Body 7x7mm, Pitch 0.65mm, Thermal Pad 5.3x5.3mm, IPC Medium Density)
footprint QFN32_L (QFN, 32-Leads, Body 7x7mm, Pitch 0.65mm, Thermal Pad 5.3x5.3mm, IPC High Density)
footprint QFN32_M (QFN, 32-Leads, Body 7x7mm, Pitch 0.65mm, Thermal Pad 5.3x5.3mm, IPC Low Density)
pins: 1 DVCC (power), 2 P1.2/CPRES (io), 3 CC8 (io), 4 CRST (out), 5 CC4 (io), 6 CCLK (out), 7 P5.0 (io), 8 VSS (power), 9 CVCC (power), 10 LI (power), 11 CVSS (power), 12 VCC (power), 13 P3.7/LED3 (io), 14 XTAL1 (in), 15 XTAL2 (out), 16 ~{RST} (in), 17 P3.6/LED2 (io), 18 P3.4/T0/LED1 (io), 19 P3.3/~{INT}1 (io), 20 P3.2/~{INT}0/LED0/CIO1 (io), 21 P3.5/T1/CRST1 (io), 22 P3.0/RxD (io), 23 P1.6 (io), 24 P3.1/TxD (io), 25 AVSS (power), 26 PLLF (in), 27 AVCC (power), 28 D- (io), 29 D+ (io), 30 VREF (out), 31 P1.7/CCLK1 (io), 32 CIO (io), 33 Thermal Pad (power)

## AT83C5127xxx-RARIM
designator U?
C51 Microcontroller with USB and Smart Card Reader Interfaces, Industrial, 32-Pin QFP Pkg, Tape and Reel; DatasheetVersion: revA, Apr-2005; PackageVersion: 1/03/2007; PackageReference: LQFP32; PackageDescription: 32-Lead Thin Profile Quad Flatpack, 7 x 7 x 1.4 mm Body,  0.8 mm Pitch; ComponentLink1Description: Manufacturer URL; ComponentLink1URL: http://www.atmel.com/; ComponentLink2Description: Datasheet; ComponentLink2URL: http://www.atmel.com/dyn/resources/prod_documents/doc7519.pdf
footprint LQFP32_N (Thin QFP, 32-Leads, Body 7x7mm, Pitch 0.8mm, IPC Medium Density)
footprint LQFP32_L (Thin QFP, 32-Leads, Body 7x7mm, Pitch 0.8mm, IPC High Density)
footprint LQFP32_M (Thin QFP, 32-Leads, Body 7x7mm, Pitch 0.8mm, IPC Low Density)
pins: 1 DVCC (power), 2 P1.2/CPRES (io), 3 CC8 (io), 4 CRST (out), 5 CC4 (io), 6 CCLK (out), 7 P5.0 (io), 8 VSS (power), 9 CVCC (power), 10 LI (power), 11 CVSS (power), 12 VCC (power), 13 P3.7/LED3 (io), 14 XTAL1 (in), 15 XTAL2 (out), 16 ~{RST} (in), 17 P3.6/LED2 (io), 18 P3.4/T0/LED1 (io), 19 P3.3/~{INT}1 (io), 20 P3.2/~{INT}0/LED0/CIO1 (io), 21 P3.5/T1/CRST1 (io), 22 P3.0/RxD (io), 23 P1.6 (io), 24 P3.1/TxD (io), 25 AVSS (power), 26 PLLF (in), 27 AVCC (power), 28 D- (io), 29 D+ (io), 30 VREF (out), 31 P1.7/CCLK1 (io), 32 CIO (io)

## AT83C5127xxx-RARUM
designator U?
C51 Microcontroller with USB and Smart Card Reader Interfaces, Industrial, 32-Pin QFP Pkg, Tape and Reel, Pb-Free; DatasheetVersion: revA, Apr-2005; PackageVersion: 1/03/2007; PackageReference: LQFP32; PackageDescription: 32-Lead Thin Profile Quad Flatpack, 7 x 7 x 1.4 mm Body,  0.8 mm Pitch; ComponentLink1Description: Manufacturer URL; ComponentLink1URL: http://www.atmel.com/; ComponentLink2Description: Datasheet; ComponentLink2URL: http://www.atmel.com/dyn/resources/prod_documents/doc7519.pdf
footprint LQFP32_N (Thin QFP, 32-Leads, Body 7x7mm, Pitch 0.8mm, IPC Medium Density)
footprint LQFP32_L (Thin QFP, 32-Leads, Body 7x7mm, Pitch 0.8mm, IPC High Density)
footprint LQFP32_M (Thin QFP, 32-Leads, Body 7x7mm, Pitch 0.8mm, IPC Low Density)
pins: 1 DVCC (power), 2 P1.2/CPRES (io), 3 CC8 (io), 4 CRST (out), 5 CC4 (io), 6 CCLK (out), 7 P5.0 (io), 8 VSS (power), 9 CVCC (power), 10 LI (power), 11 CVSS (power), 12 VCC (power), 13 P3.7/LED3 (io), 14 XTAL1 (in), 15 XTAL2 (out), 16 ~{RST} (in), 17 P3.6/LED2 (io), 18 P3.4/T0/LED1 (io), 19 P3.3/~{INT}1 (io), 20 P3.2/~{INT}0/LED0/CIO1 (io), 21 P3.5/T1/CRST1 (io), 22 P3.0/RxD (io), 23 P1.6 (io), 24 P3.1/TxD (io), 25 AVSS (power), 26 PLLF (in), 27 AVCC (power), 28 D- (io), 29 D+ (io), 30 VREF (out), 31 P1.7/CCLK1 (io), 32 CIO (io)

## AT83C5127xxx-RATIM
designator U?
C51 Microcontroller with USB and Smart Card Reader Interfaces, Industrial, 32-Pin QFP Pkg, Tray; DatasheetVersion: revA, Apr-2005; PackageVersion: 1/03/2007; PackageReference: LQFP32; PackageDescription: 32-Lead Thin Profile Quad Flatpack, 7 x 7 x 1.4 mm Body,  0.8 mm Pitch; ComponentLink1Description: Manufacturer URL; ComponentLink1URL: http://www.atmel.com/; ComponentLink2Description: Datasheet; ComponentLink2URL: http://www.atmel.com/dyn/resources/prod_documents/doc7519.pdf
footprint LQFP32_N (Thin QFP, 32-Leads, Body 7x7mm, Pitch 0.8mm, IPC Medium Density)
footprint LQFP32_L (Thin QFP, 32-Leads, Body 7x7mm, Pitch 0.8mm, IPC High Density)
footprint LQFP32_M (Thin QFP, 32-Leads, Body 7x7mm, Pitch 0.8mm, IPC Low Density)
pins: 1 DVCC (power), 2 P1.2/CPRES (io), 3 CC8 (io), 4 CRST (out), 5 CC4 (io), 6 CCLK (out), 7 P5.0 (io), 8 VSS (power), 9 CVCC (power), 10 LI (power), 11 CVSS (power), 12 VCC (power), 13 P3.7/LED3 (io), 14 XTAL1 (in), 15 XTAL2 (out), 16 ~{RST} (in), 17 P3.6/LED2 (io), 18 P3.4/T0/LED1 (io), 19 P3.3/~{INT}1 (io), 20 P3.2/~{INT}0/LED0/CIO1 (io), 21 P3.5/T1/CRST1 (io), 22 P3.0/RxD (io), 23 P1.6 (io), 24 P3.1/TxD (io), 25 AVSS (power), 26 PLLF (in), 27 AVCC (power), 28 D- (io), 29 D+ (io), 30 VREF (out), 31 P1.7/CCLK1 (io), 32 CIO (io)

## AT83C5127xxx-RATUM
designator U?
C51 Microcontroller with USB and Smart Card Reader Interfaces, Industrial, 32-Pin QFP Pkg, Tray, Pb-Free; DatasheetVersion: revA, Apr-2005; PackageVersion: 1/03/2007; PackageReference: LQFP32; PackageDescription: 32-Lead Thin Profile Quad Flatpack, 7 x 7 x 1.4 mm Body,  0.8 mm Pitch; ComponentLink1Description: Manufacturer URL; ComponentLink1URL: http://www.atmel.com/; ComponentLink2Description: Datasheet; ComponentLink2URL: http://www.atmel.com/dyn/resources/prod_documents/doc7519.pdf
footprint LQFP32_N (Thin QFP, 32-Leads, Body 7x7mm, Pitch 0.8mm, IPC Medium Density)
footprint LQFP32_L (Thin QFP, 32-Leads, Body 7x7mm, Pitch 0.8mm, IPC High Density)
footprint LQFP32_M (Thin QFP, 32-Leads, Body 7x7mm, Pitch 0.8mm, IPC Low Density)
pins: 1 DVCC (power), 2 P1.2/CPRES (io), 3 CC8 (io), 4 CRST (out), 5 CC4 (io), 6 CCLK (out), 7 P5.0 (io), 8 VSS (power), 9 CVCC (power), 10 LI (power), 11 CVSS (power), 12 VCC (power), 13 P3.7/LED3 (io), 14 XTAL1 (in), 15 XTAL2 (out), 16 ~{RST} (in), 17 P3.6/LED2 (io), 18 P3.4/T0/LED1 (io), 19 P3.3/~{INT}1 (io), 20 P3.2/~{INT}0/LED0/CIO1 (io), 21 P3.5/T1/CRST1 (io), 22 P3.0/RxD (io), 23 P1.6 (io), 24 P3.1/TxD (io), 25 AVSS (power), 26 PLLF (in), 27 AVCC (power), 28 D- (io), 29 D+ (io), 30 VREF (out), 31 P1.7/CCLK1 (io), 32 CIO (io)

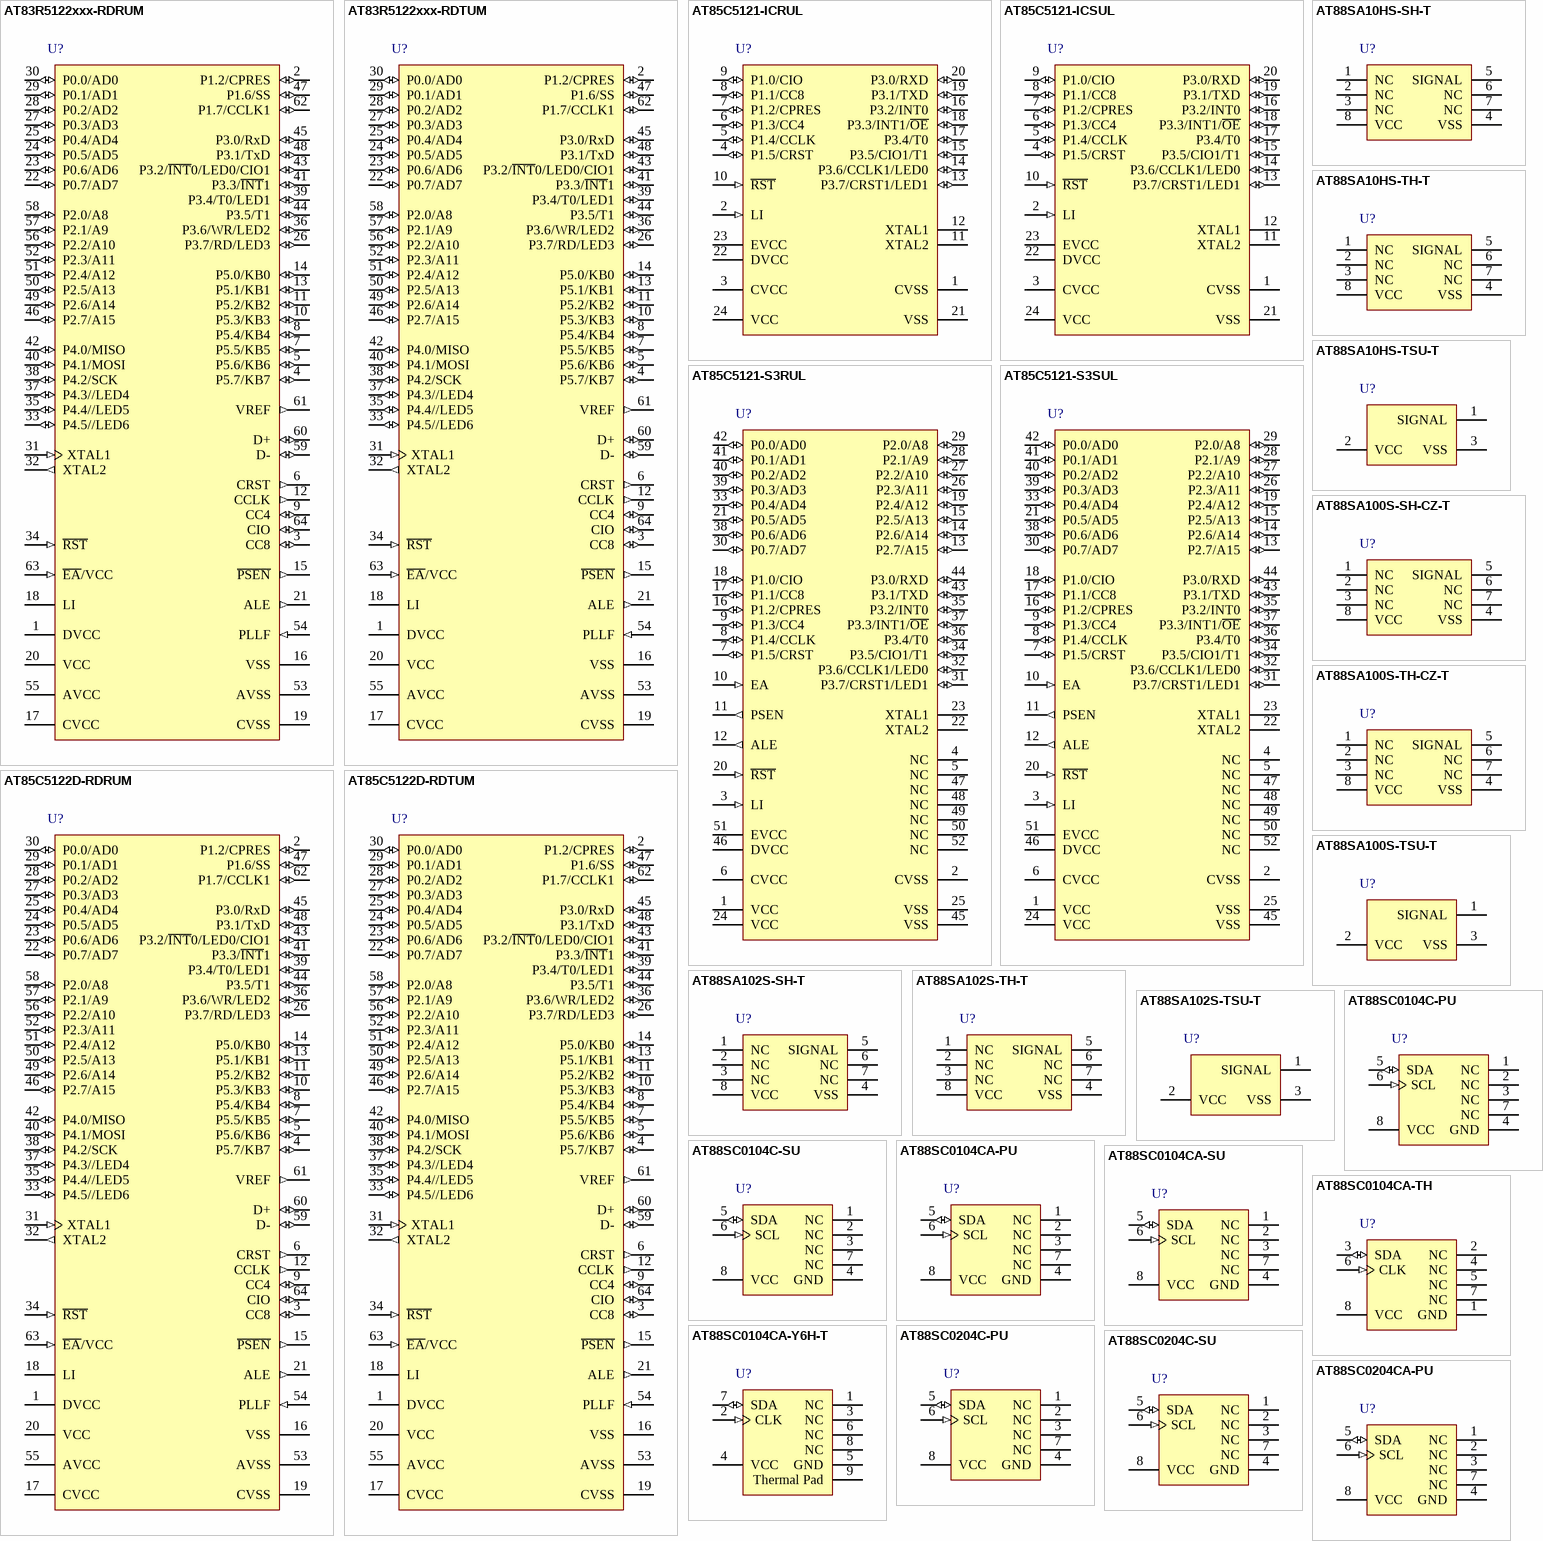
[diagram p5: symbols AT83R5122xxx-RDRUM to AT88SC0204CA-PU]

## AT83R5122xxx-RDRUM
designator U?
C51 Microcontroller with USB and Smart Card Reader Interfaces, 32K ROM, Industrial, 64-Pin QFP Pkg, Tape and Reel; DatasheetVersion: revF, July-2008; PackageVersion: 4/04/2006; PackageReference: LQFP64; PackageDescription: 64-Pin Thin Quad Flat Pack 0.5 mm Pitch; Code_JEDEC: MS-026-BCD; ComponentLink1Description: Manufacturer URL; ComponentLink1URL: http://www.atmel.com/; ComponentLink2Description: Datasheet; ComponentLink2URL: http://www.atmel.com/dyn/resources/prod_documents/datasheet%20C5122.pdf
footprint LQFP64_N (Thin QFP, 64-Leads, Body 10x10mm, Pitch 0.5mm, IPC Medium Density)
footprint LQFP64_L (Thin QFP, 64-Leads, Body 10x10mm, Pitch 0.5mm, IPC High Density)
footprint LQFP64_M (Thin QFP, 64-Leads, Body 10x10mm, Pitch 0.5mm, IPC Low Density)
pins: 1 DVCC (power), 2 P1.2/CPRES (io), 3 CC8 (io), 4 P5.7/KB7 (io), 5 P5.6/KB6 (io), 6 CRST (out), 7 P5.5/KB5 (io), 8 P5.4/KB4 (io), 9 CC4 (io), 10 P5.3/KB3 (io), 11 P5.2/KB2 (io), 12 CCLK (out), 13 P5.1/KB1 (io), 14 P5.0/KB0 (io), 15 ~{PSEN} (out), 16 VSS (power), 17 CVCC (power), 18 LI (power), 19 CVSS (power), 20 VCC (power), 21 ALE (out), 22 P0.7/AD7 (io), 23 P0.6/AD6 (io), 24 P0.5/AD5 (io), 25 P0.4/AD4 (io), 26 P3.7/RD/LED3 (io), 27 P0.3/AD3 (io), 28 P0.2/AD2 (io), 29 P0.1/AD1 (io), 30 P0.0/AD0 (io), 31 XTAL1 (in), 32 XTAL2 (out), 33 P4.5//LED6 (io), 34 ~{RST} (in), 35 P4.4//LED5 (io), 36 P3.6/WR/LED2 (io), 37 P4.3//LED4 (io), 38 P4.2/SCK (io), 39 P3.4/T0/LED1 (io), 40 P4.1/MOSI (io), 41 P3.3/~{INT}1 (io), 42 P4.0/MISO (io), 43 P3.2/~{INT}0/LED0/CIO1 (io), 44 P3.5/T1 (io), 45 P3.0/RxD (io), 46 P2.7/A15 (io), 47 P1.6/SS (io), 48 P3.1/TxD (io), 49 P2.6/A14 (io), 50 P2.5/A13 (io), 51 P2.4/A12 (io), 52 P2.3/A11 (io), 53 AVSS (power), 54 PLLF (in), 55 AVCC (power), 56 P2.2/A10 (io), 57 P2.1/A9 (io), 58 P2.0/A8 (io), 59 D- (io), 60 D+ (io), 61 VREF (out), 62 P1.7/CCLK1 (io), 63 ~{EA}/VCC (in), 64 CIO (io)

## AT83R5122xxx-RDTUM
designator U?
C51 Microcontroller with USB and Smart Card Reader Interfaces, 32K ROM, Industrial, 64-Pin QFP Pkg, Tray; DatasheetVersion: revF, July-2008; PackageVersion: 4/04/2006; PackageReference: LQFP64; PackageDescription: 64-Pin Thin Quad Flat Pack 0.5 mm Pitch; Code_JEDEC: MS-026-BCD; ComponentLink1Description: Manufacturer URL; ComponentLink1URL: http://www.atmel.com/; ComponentLink2Description: Datasheet; ComponentLink2URL: http://www.atmel.com/dyn/resources/prod_documents/datasheet%20C5122.pdf
footprint LQFP64_N (Thin QFP, 64-Leads, Body 10x10mm, Pitch 0.5mm, IPC Medium Density)
footprint LQFP64_L (Thin QFP, 64-Leads, Body 10x10mm, Pitch 0.5mm, IPC High Density)
footprint LQFP64_M (Thin QFP, 64-Leads, Body 10x10mm, Pitch 0.5mm, IPC Low Density)
pins: 1 DVCC (power), 2 P1.2/CPRES (io), 3 CC8 (io), 4 P5.7/KB7 (io), 5 P5.6/KB6 (io), 6 CRST (out), 7 P5.5/KB5 (io), 8 P5.4/KB4 (io), 9 CC4 (io), 10 P5.3/KB3 (io), 11 P5.2/KB2 (io), 12 CCLK (out), 13 P5.1/KB1 (io), 14 P5.0/KB0 (io), 15 ~{PSEN} (out), 16 VSS (power), 17 CVCC (power), 18 LI (power), 19 CVSS (power), 20 VCC (power), 21 ALE (out), 22 P0.7/AD7 (io), 23 P0.6/AD6 (io), 24 P0.5/AD5 (io), 25 P0.4/AD4 (io), 26 P3.7/RD/LED3 (io), 27 P0.3/AD3 (io), 28 P0.2/AD2 (io), 29 P0.1/AD1 (io), 30 P0.0/AD0 (io), 31 XTAL1 (in), 32 XTAL2 (out), 33 P4.5//LED6 (io), 34 ~{RST} (in), 35 P4.4//LED5 (io), 36 P3.6/WR/LED2 (io), 37 P4.3//LED4 (io), 38 P4.2/SCK (io), 39 P3.4/T0/LED1 (io), 40 P4.1/MOSI (io), 41 P3.3/~{INT}1 (io), 42 P4.0/MISO (io), 43 P3.2/~{INT}0/LED0/CIO1 (io), 44 P3.5/T1 (io), 45 P3.0/RxD (io), 46 P2.7/A15 (io), 47 P1.6/SS (io), 48 P3.1/TxD (io), 49 P2.6/A14 (io), 50 P2.5/A13 (io), 51 P2.4/A12 (io), 52 P2.3/A11 (io), 53 AVSS (power), 54 PLLF (in), 55 AVCC (power), 56 P2.2/A10 (io), 57 P2.1/A9 (io), 58 P2.0/A8 (io), 59 D- (io), 60 D+ (io), 61 VREF (out), 62 P1.7/CCLK1 (io), 63 ~{EA}/VCC (in), 64 CIO (io)

## AT85C5121-ICRUL
designator U?
8-bit Microcontroller with Multiprotocol Smart Card Interface, Industrial, 24-Pin SOIC Pkg, Tape and Reel, Pb-Free; DatasheetVersion: revG, July-2006; PackageVersion: 1/07/2006; PackageReference: SSOP24; PackageDescription: 24-Pin Shrink Small Outline Package, 8.2 x 5.3 mm Body, 0.65 mm Pitch; Code_JEDEC: MO-150-AG; ComponentLink1Description: Manufacturer URL; ComponentLink1URL: http://www.atmel.com/; ComponentLink2Description: Datasheet; ComponentLink2URL: http://www.atmel.com/dyn/resources/prod_documents/doc4164.pdf
footprint SSOP24_N (SOP, 24-Leads, Body 8.2x5.3mm, Pitch 0.65mm, IPC Medium Density)
footprint SSOP24_L (SOP, 24-Leads, Body 8.2x5.3mm, Pitch 0.65mm, IPC High Density)
footprint SSOP24_M (SOP, 24-Leads, Body 8.2x5.3mm, Pitch 0.65mm, IPC Low Density)
pins: 1 CVSS (power), 2 LI (in), 3 CVCC (power), 4 P1.5/CRST (io), 5 P1.4/CCLK (io), 6 P1.3/CC4 (io), 7 P1.2/CPRES (io), 8 P1.1/CC8 (io), 9 P1.0/CIO (io), 10 ~{RST} (in), 11 XTAL2, 12 XTAL1, 13 P3.7/CRST1/LED1 (io), 14 P3.6/CCLK1/LED0 (io), 15 P3.5/CIO1/T1 (io), 16 P3.2/INT0 (io), 17 P3.4/T0 (io), 18 P3.3/INT1/~{OE} (io), 19 P3.1/TXD (io), 20 P3.0/RXD (io), 21 VSS (power), 22 DVCC (power), 23 EVCC (power), 24 VCC (power)

## AT85C5121-ICSUL
designator U?
8-bit Microcontroller with Multiprotocol Smart Card Interface, Industrial, 24-Pin SOIC Pkg, Stick, Pb-Free; DatasheetVersion: revG, July-2006; PackageVersion: 1/07/2006; PackageReference: SSOP24; PackageDescription: 24-Pin Shrink Small Outline Package, 8.2 x 5.3 mm Body, 0.65 mm Pitch; Code_JEDEC: MO-150-AG; ComponentLink1Description: Manufacturer URL; ComponentLink1URL: http://www.atmel.com/; ComponentLink2Description: Datasheet; ComponentLink2URL: http://www.atmel.com/dyn/resources/prod_documents/doc4164.pdf
footprint SSOP24_N (SOP, 24-Leads, Body 8.2x5.3mm, Pitch 0.65mm, IPC Medium Density)
footprint SSOP24_L (SOP, 24-Leads, Body 8.2x5.3mm, Pitch 0.65mm, IPC High Density)
footprint SSOP24_M (SOP, 24-Leads, Body 8.2x5.3mm, Pitch 0.65mm, IPC Low Density)
pins: 1 CVSS (power), 2 LI (in), 3 CVCC (power), 4 P1.5/CRST (io), 5 P1.4/CCLK (io), 6 P1.3/CC4 (io), 7 P1.2/CPRES (io), 8 P1.1/CC8 (io), 9 P1.0/CIO (io), 10 ~{RST} (in), 11 XTAL2, 12 XTAL1, 13 P3.7/CRST1/LED1 (io), 14 P3.6/CCLK1/LED0 (io), 15 P3.5/CIO1/T1 (io), 16 P3.2/INT0 (io), 17 P3.4/T0 (io), 18 P3.3/INT1/~{OE} (io), 19 P3.1/TXD (io), 20 P3.0/RXD (io), 21 VSS (power), 22 DVCC (power), 23 EVCC (power), 24 VCC (power)

## AT85C5121-S3RUL
designator U?
8-bit Microcontroller with Multiprotocol Smart Card Interface, Industrial, 52-Pin LCC Pkg, Tape and Reel, Pb-Free; DatasheetVersion: revG, July-2006; PackageVersion: 1/07/2006; PackageReference: PLCC52; PackageDescription: 52-Pin Leaded Chip Carrier ,19 x 19 mm Body, 1.27 mm Pitch; Code_IPC: PLCC-52; ComponentLink1Description: Manufacturer URL; ComponentLink1URL: http://www.atmel.com/; ComponentLink2Description: Datasheet; ComponentLink2URL: http://www.atmel.com/dyn/resources/prod_documents/doc4164.pdf
footprint PLCC52_N (Leaded Chip Carrier, 52-Leads, Body 19x19mm, Pitch 1.27mm, IPC Medium Density)
footprint PLCC52_L (Leaded Chip Carrier, 52-Leads, Body 19x19mm, Pitch 1.27mm, IPC High Density)
footprint PLCC52_M (Leaded Chip Carrier, 52-Leads, Body 19x19mm, Pitch 1.27mm, IPC Low Density)
pins: 1 VCC (power), 2 CVSS (power), 3 LI (in), 4 NC, 5 NC, 6 CVCC (power), 7 P1.5/CRST (io), 8 P1.4/CCLK (io), 9 P1.3/CC4 (io), 10 EA (in), 11 PSEN (out), 12 ALE (out), 13 P2.7/A15 (io), 14 P2.6/A14 (io), 15 P2.5/A13 (io), 16 P1.2/CPRES (io), 17 P1.1/CC8 (io), 18 P1.0/CIO (io), 19 P2.4/A12 (io), 20 ~{RST} (in), 21 P0.5/AD5 (io), 22 XTAL2, 23 XTAL1, 24 VCC (power), 25 VSS (power), 26 P2.3/A11 (io), 27 P2.2/A10 (io), 28 P2.1/A9 (io), 29 P2.0/A8 (io), 30 P0.7/AD7 (io), 31 P3.7/CRST1/LED1 (io), 32 P3.6/CCLK1/LED0 (io), 33 P0.4/AD4 (io), 34 P3.5/CIO1/T1 (io), 35 P3.2/INT0 (io), 36 P3.4/T0 (io), 37 P3.3/INT1/~{OE} (io), 38 P0.6/AD6 (io), 39 P0.3/AD3 (io), 40 P0.2/AD2 (io), 41 P0.1/AD1 (io), 42 P0.0/AD0 (io), 43 P3.1/TXD (io), 44 P3.0/RXD (io), 45 VSS (power), 46 DVCC (power), 47 NC, 48 NC, 49 NC, 50 NC, 51 EVCC (power), 52 NC

## AT85C5121-S3SUL
designator U?
8-bit Microcontroller with Multiprotocol Smart Card Interface, Industrial, 52-Pin LCC Pkg, Stick, Pb-Free; DatasheetVersion: revG, July-2006; PackageVersion: 1/07/2006; PackageReference: PLCC52; PackageDescription: 52-Pin Leaded Chip Carrier ,19 x 19 mm Body, 1.27 mm Pitch; Code_IPC: PLCC-52; ComponentLink1Description: Manufacturer URL; ComponentLink1URL: http://www.atmel.com/; ComponentLink2Description: Datasheet; ComponentLink2URL: http://www.atmel.com/dyn/resources/prod_documents/doc4164.pdf
footprint PLCC52_N (Leaded Chip Carrier, 52-Leads, Body 19x19mm, Pitch 1.27mm, IPC Medium Density)
footprint PLCC52_L (Leaded Chip Carrier, 52-Leads, Body 19x19mm, Pitch 1.27mm, IPC High Density)
footprint PLCC52_M (Leaded Chip Carrier, 52-Leads, Body 19x19mm, Pitch 1.27mm, IPC Low Density)
pins: 1 VCC (power), 2 CVSS (power), 3 LI (in), 4 NC, 5 NC, 6 CVCC (power), 7 P1.5/CRST (io), 8 P1.4/CCLK (io), 9 P1.3/CC4 (io), 10 EA (in), 11 PSEN (out), 12 ALE (out), 13 P2.7/A15 (io), 14 P2.6/A14 (io), 15 P2.5/A13 (io), 16 P1.2/CPRES (io), 17 P1.1/CC8 (io), 18 P1.0/CIO (io), 19 P2.4/A12 (io), 20 ~{RST} (in), 21 P0.5/AD5 (io), 22 XTAL2, 23 XTAL1, 24 VCC (power), 25 VSS (power), 26 P2.3/A11 (io), 27 P2.2/A10 (io), 28 P2.1/A9 (io), 29 P2.0/A8 (io), 30 P0.7/AD7 (io), 31 P3.7/CRST1/LED1 (io), 32 P3.6/CCLK1/LED0 (io), 33 P0.4/AD4 (io), 34 P3.5/CIO1/T1 (io), 35 P3.2/INT0 (io), 36 P3.4/T0 (io), 37 P3.3/INT1/~{OE} (io), 38 P0.6/AD6 (io), 39 P0.3/AD3 (io), 40 P0.2/AD2 (io), 41 P0.1/AD1 (io), 42 P0.0/AD0 (io), 43 P3.1/TXD (io), 44 P3.0/RXD (io), 45 VSS (power), 46 DVCC (power), 47 NC, 48 NC, 49 NC, 50 NC, 51 EVCC (power), 52 NC

## AT85C5122D-RDRUM
designator U?
C51 Microcontroller with USB and Smart Card Reader Interfaces, 32K CRAM, Industrial, 64-Pin QFP Pkg, Tape and Reel; DatasheetVersion: revF, July-2008; PackageVersion: 4/04/2006; PackageReference: LQFP64; PackageDescription: 64-Pin Thin Quad Flat Pack 0.5 mm Pitch; Code_JEDEC: MS-026-BCD; ComponentLink1Description: Manufacturer URL; ComponentLink1URL: http://www.atmel.com/; ComponentLink2Description: Datasheet; ComponentLink2URL: http://www.atmel.com/dyn/resources/prod_documents/datasheet%20C5122.pdf
footprint LQFP64_N (Thin QFP, 64-Leads, Body 10x10mm, Pitch 0.5mm, IPC Medium Density)
footprint LQFP64_L (Thin QFP, 64-Leads, Body 10x10mm, Pitch 0.5mm, IPC High Density)
footprint LQFP64_M (Thin QFP, 64-Leads, Body 10x10mm, Pitch 0.5mm, IPC Low Density)
pins: 1 DVCC (power), 2 P1.2/CPRES (io), 3 CC8 (io), 4 P5.7/KB7 (io), 5 P5.6/KB6 (io), 6 CRST (out), 7 P5.5/KB5 (io), 8 P5.4/KB4 (io), 9 CC4 (io), 10 P5.3/KB3 (io), 11 P5.2/KB2 (io), 12 CCLK (out), 13 P5.1/KB1 (io), 14 P5.0/KB0 (io), 15 ~{PSEN} (out), 16 VSS (power), 17 CVCC (power), 18 LI (power), 19 CVSS (power), 20 VCC (power), 21 ALE (out), 22 P0.7/AD7 (io), 23 P0.6/AD6 (io), 24 P0.5/AD5 (io), 25 P0.4/AD4 (io), 26 P3.7/RD/LED3 (io), 27 P0.3/AD3 (io), 28 P0.2/AD2 (io), 29 P0.1/AD1 (io), 30 P0.0/AD0 (io), 31 XTAL1 (in), 32 XTAL2 (out), 33 P4.5//LED6 (io), 34 ~{RST} (in), 35 P4.4//LED5 (io), 36 P3.6/WR/LED2 (io), 37 P4.3//LED4 (io), 38 P4.2/SCK (io), 39 P3.4/T0/LED1 (io), 40 P4.1/MOSI (io), 41 P3.3/~{INT}1 (io), 42 P4.0/MISO (io), 43 P3.2/~{INT}0/LED0/CIO1 (io), 44 P3.5/T1 (io), 45 P3.0/RxD (io), 46 P2.7/A15 (io), 47 P1.6/SS (io), 48 P3.1/TxD (io), 49 P2.6/A14 (io), 50 P2.5/A13 (io), 51 P2.4/A12 (io), 52 P2.3/A11 (io), 53 AVSS (power), 54 PLLF (in), 55 AVCC (power), 56 P2.2/A10 (io), 57 P2.1/A9 (io), 58 P2.0/A8 (io), 59 D- (io), 60 D+ (io), 61 VREF (out), 62 P1.7/CCLK1 (io), 63 ~{EA}/VCC (in), 64 CIO (io)

## AT85C5122D-RDTUM
designator U?
C51 Microcontroller with USB and Smart Card Reader Interfaces, 32K CRAM, Industrial, 64-Pin QFP Pkg, Tray; DatasheetVersion: revF, July-2008; PackageVersion: 4/04/2006; PackageReference: LQFP64; PackageDescription: 64-Pin Thin Quad Flat Pack 0.5 mm Pitch; Code_JEDEC: MS-026-BCD; ComponentLink1Description: Manufacturer URL; ComponentLink1URL: http://www.atmel.com/; ComponentLink2Description: Datasheet; ComponentLink2URL: http://www.atmel.com/dyn/resources/prod_documents/datasheet%20C5122.pdf
footprint LQFP64_N (Thin QFP, 64-Leads, Body 10x10mm, Pitch 0.5mm, IPC Medium Density)
footprint LQFP64_L (Thin QFP, 64-Leads, Body 10x10mm, Pitch 0.5mm, IPC High Density)
footprint LQFP64_M (Thin QFP, 64-Leads, Body 10x10mm, Pitch 0.5mm, IPC Low Density)
pins: 1 DVCC (power), 2 P1.2/CPRES (io), 3 CC8 (io), 4 P5.7/KB7 (io), 5 P5.6/KB6 (io), 6 CRST (out), 7 P5.5/KB5 (io), 8 P5.4/KB4 (io), 9 CC4 (io), 10 P5.3/KB3 (io), 11 P5.2/KB2 (io), 12 CCLK (out), 13 P5.1/KB1 (io), 14 P5.0/KB0 (io), 15 ~{PSEN} (out), 16 VSS (power), 17 CVCC (power), 18 LI (power), 19 CVSS (power), 20 VCC (power), 21 ALE (out), 22 P0.7/AD7 (io), 23 P0.6/AD6 (io), 24 P0.5/AD5 (io), 25 P0.4/AD4 (io), 26 P3.7/RD/LED3 (io), 27 P0.3/AD3 (io), 28 P0.2/AD2 (io), 29 P0.1/AD1 (io), 30 P0.0/AD0 (io), 31 XTAL1 (in), 32 XTAL2 (out), 33 P4.5//LED6 (io), 34 ~{RST} (in), 35 P4.4//LED5 (io), 36 P3.6/WR/LED2 (io), 37 P4.3//LED4 (io), 38 P4.2/SCK (io), 39 P3.4/T0/LED1 (io), 40 P4.1/MOSI (io), 41 P3.3/~{INT}1 (io), 42 P4.0/MISO (io), 43 P3.2/~{INT}0/LED0/CIO1 (io), 44 P3.5/T1 (io), 45 P3.0/RxD (io), 46 P2.7/A15 (io), 47 P1.6/SS (io), 48 P3.1/TxD (io), 49 P2.6/A14 (io), 50 P2.5/A13 (io), 51 P2.4/A12 (io), 52 P2.3/A11 (io), 53 AVSS (power), 54 PLLF (in), 55 AVCC (power), 56 P2.2/A10 (io), 57 P2.1/A9 (io), 58 P2.0/A8 (io), 59 D- (io), 60 D+ (io), 61 VREF (out), 62 P1.7/CCLK1 (io), 63 ~{EA}/VCC (in), 64 CIO (io)

## AT88SA10HS-SH-T
designator U?
CryptoAuthentication™ Host Security Chip, Industrial (-40 to 85 degC), 8-Pin SOIC, Tape and Reel, Pb-Free; DatasheetVersion: revD, May-2010; PackageVersion: revC, Mar-2005; PackageReference: 8S1; PackageDescription: 8-Lead (0.150" Wide Body), Plastic Gull Wing Small Outline (JEDEC SOIC); Code_JEDEC: MS-012-AA; Code_IPC: SOIC127P600-8; ComponentLink1Description: Manufacturer URL; ComponentLink1URL: http://www.atmel.com/; ComponentLink2Description: Datasheet; ComponentLink2URL: http://www.atmel.com/dyn/resources/prod_documents/doc8595.pdf
footprint 8S1_N (SOIC, 8-Leads, Body 4.9x3.9mm, Pitch 1.27mm, IPC Medium Density)
footprint 8S1_L (SOIC, 8-Leads, Body 4.9x3.9mm, Pitch 1.27mm, IPC High Density)
footprint 8S1_M (SOIC, 8-Leads, Body 4.9x3.9mm, Pitch 1.27mm, IPC Low Density)
pins: 1 NC, 2 NC, 3 NC, 4 VSS (power), 5 SIGNAL (oc), 6 NC, 7 NC, 8 VCC (power)

## AT88SA10HS-TH-T
designator U?
CryptoAuthentication™ Host Security Chip, Industrial (-40 to 85 degC), 8-Pin TSOP, Tape and Reel, Pb-Free; DatasheetVersion: revD, May-2010; PackageVersion: revD, Dec-2009; PackageReference: 8A2; PackageDescription: 8-Lead, 4.4 mm Body, Plastic Thin Shrink Small Outline Package (TSSOP); Code_JEDEC: MO-153-AA; ComponentLink1Description: Manufacturer URL; ComponentLink1URL: http://www.atmel.com/; ComponentLink2Description: Datasheet; ComponentLink2URL: http://www.atmel.com/dyn/resources/prod_documents/doc8595.pdf
footprint 8A2_N (TSOP, 8-Leads, Body 3x4.4mm, Pitch 0.65mm, IPC Medium Density)
footprint 8A2_L (TSOP, 8-Leads, Body 3x4.4mm, Pitch 0.65mm, IPC High Density)
footprint 8A2_M (TSOP, 8-Leads, Body 3x4.4mm, Pitch 0.65mm, IPC Low Density)
pins: 1 NC, 2 NC, 3 NC, 4 VSS (power), 5 SIGNAL (oc), 6 NC, 7 NC, 8 VCC (power)

## AT88SA10HS-TSU-T
designator U?
CryptoAuthentication™ Host Security Chip, Industrial (-40 to 85 degC), 3-Pin SOT, Tape and Reel, Pb-Free; DatasheetVersion: revD, May-2010; PackageVersion: revA,Nov-2008; PackageReference: 3TS1; PackageDescription: 3-Pin Plastic Thin Shrink Small Outline Package, 2.9 x 1.3 mm Body, 0.95 mm Pitch (Shrink SOT); Code_JEDEC: TO-236-AB; Code_IPC: SOT23-3; ComponentLink1Description: Manufacturer URL; ComponentLink1URL: http://www.atmel.com/; ComponentLink2Description: Datasheet; ComponentLink2URL: http://www.atmel.com/dyn/resources/prod_documents/doc8595.pdf
footprint 3TS1_N (SOT23, 3-Leads, Body 2.9x1.3mm, Pitch 0.95mm, Lead Span 2.4mm, IPC Medium Density)
footprint 3TS1_L (SOT23, 3-Leads, Body 2.9x1.3mm, Pitch 0.95mm, Lead Span 2.4mm, IPC High Density)
footprint 3TS1_M (SOT23, 3-Leads, Body 2.9x1.3mm, Pitch 0.95mm, Lead Span 2.4mm, IPC Low Density)
pins: 1 SIGNAL (oc), 2 VCC (power), 3 VSS (power)

## AT88SA100S-SH-CZ-T
designator U?
CryptoAuthentication™ Battery Authentication Chip, Industrial (-40 to 85 degC), 8-Pin SOIC, Tape and Reel; DatasheetVersion: revC, May-2010; PackageVersion: revC, Mar-2005; PackageReference: 8S1; PackageDescription: 8-Lead (0.150" Wide Body), Plastic Gull Wing Small Outline (JEDEC SOIC); Code_JEDEC: MS-012-AA; Code_IPC: SOIC127P600-8; ComponentLink1Description: Manufacturer URL; ComponentLink1URL: http://www.atmel.com/; ComponentLink2Description: Datasheet; ComponentLink2URL: http://www.atmel.com/dyn/resources/prod_documents/doc8558.pdf
footprint 8S1_N (SOIC, 8-Leads, Body 4.9x3.9mm, Pitch 1.27mm, IPC Medium Density)
footprint 8S1_L (SOIC, 8-Leads, Body 4.9x3.9mm, Pitch 1.27mm, IPC High Density)
footprint 8S1_M (SOIC, 8-Leads, Body 4.9x3.9mm, Pitch 1.27mm, IPC Low Density)
pins: 1 NC, 2 NC, 3 NC, 4 VSS (power), 5 SIGNAL (oc), 6 NC, 7 NC, 8 VCC (power)

## AT88SA100S-TH-CZ-T
designator U?
CryptoAuthentication™ Battery Authentication Chip, Industrial (-40 to 85 degC), 8-Pin TSSOP, Tape and Reel; DatasheetVersion: revC, May-2010; PackageVersion: revD, Dec-2009; PackageReference: 8A2; PackageDescription: 8-Lead, 4.4 mm Body, Plastic Thin Shrink Small Outline Package (TSSOP); Code_JEDEC: MO-153-AA; ComponentLink1Description: Manufacturer URL; ComponentLink1URL: http://www.atmel.com/; ComponentLink2Description: Datasheet; ComponentLink2URL: http://www.atmel.com/dyn/resources/prod_documents/doc8558.pdf
footprint 8A2_N (TSOP, 8-Leads, Body 3x4.4mm, Pitch 0.65mm, IPC Medium Density)
footprint 8A2_L (TSOP, 8-Leads, Body 3x4.4mm, Pitch 0.65mm, IPC High Density)
footprint 8A2_M (TSOP, 8-Leads, Body 3x4.4mm, Pitch 0.65mm, IPC Low Density)
pins: 1 NC, 2 NC, 3 NC, 4 VSS (power), 5 SIGNAL (oc), 6 NC, 7 NC, 8 VCC (power)

## AT88SA100S-TSU-T
designator U?
CryptoAuthentication™ Battery Authentication Chip, Industrial (-40 to 85 degC), 3-Pin SOT, Tape and Reel; DatasheetVersion: revC, May-2010; PackageVersion: revA,Nov-2008; PackageReference: 3TS1; PackageDescription: 3-Pin Plastic Thin Shrink Small Outline Package, 2.9 x 1.3 mm Body, 0.95 mm Pitch (Shrink SOT); Code_JEDEC: TO-236-AB; Code_IPC: SOT23-3; ComponentLink1Description: Manufacturer URL; ComponentLink1URL: http://www.atmel.com/; ComponentLink2Description: Datasheet; ComponentLink2URL: http://www.atmel.com/dyn/resources/prod_documents/doc8558.pdf
footprint 3TS1_N (SOT23, 3-Leads, Body 2.9x1.3mm, Pitch 0.95mm, Lead Span 2.4mm, IPC Medium Density)
footprint 3TS1_L (SOT23, 3-Leads, Body 2.9x1.3mm, Pitch 0.95mm, Lead Span 2.4mm, IPC High Density)
footprint 3TS1_M (SOT23, 3-Leads, Body 2.9x1.3mm, Pitch 0.95mm, Lead Span 2.4mm, IPC Low Density)
pins: 1 SIGNAL (oc), 2 VCC (power), 3 VSS (power)

## AT88SA102S-SH-T
designator U?
CryptoAuthentication™ Product Authentication Chip, Industrial (-40 to 85 degC), 8-Pin SOIC, Tape and Reel, Pb-Free; DatasheetVersion: revD, May-2010; PackageVersion: revC, Mar-2005; PackageReference: 8S1; PackageDescription: 8-Lead (0.150" Wide Body), Plastic Gull Wing Small Outline (JEDEC SOIC); Code_JEDEC: MS-012-AA; Code_IPC: SOIC127P600-8; ComponentLink1Description: Manufacturer URL; ComponentLink1URL: http://www.atmel.com/; ComponentLink2Description: Datasheet; ComponentLink2URL: http://www.atmel.com/dyn/resources/prod_documents/doc8584.pdf
footprint 8S1_N (SOIC, 8-Leads, Body 4.9x3.9mm, Pitch 1.27mm, IPC Medium Density)
footprint 8S1_L (SOIC, 8-Leads, Body 4.9x3.9mm, Pitch 1.27mm, IPC High Density)
footprint 8S1_M (SOIC, 8-Leads, Body 4.9x3.9mm, Pitch 1.27mm, IPC Low Density)
pins: 1 NC, 2 NC, 3 NC, 4 VSS (power), 5 SIGNAL (oc), 6 NC, 7 NC, 8 VCC (power)